# Altium schematic symbol library SCH - POWER - SWITCHMODE - TI TPS566250DDA.SchLib: 1 symbol
Pins are listed as number, name and electrical type; pins without a type are passive.

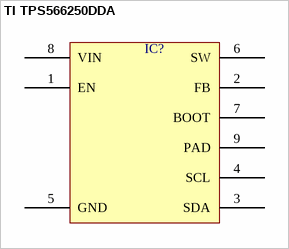
[diagram p0: symbol TI TPS566250DDA]

## TI TPS566250DDA
designator IC?  (value not drawn)
pins: 1 EN, 2 FB, 3 SDA, 4 SCL, 5 GND, 6 SW, 7 BOOT, 8 VIN, 9 PAD